# EAGLE library part AD9838 (library tdcs)
The AD9838 is a low power DDS device capable of producing high performance sine and triangular outputs. It also has an on-board comparator that allows a square wave to be produced for clock generation. Consuming only 11 mW of power at 2.3 V the AD9838 is an ideal candidate for power-sensitive applications. Datasheet <http://www.analog.com/static/imported-files/data_sheets/AD9838.pdf>
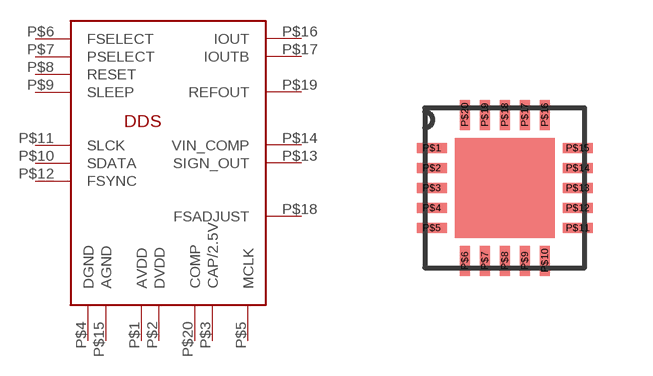
[diagram p0: symbol with the pads of LFCSP_WQ20; footprint LFCSP_WQ20]

Designator prefix DDS

## AD9838  [LFCSP_WQ20]
P$1  AVDD  in
P$2  DVDD  in
P$3  CAP/2.5V  pas
P$4  DGND  in
P$5  MCLK  in
P$6  FSELECT  pas
P$7  PSELECT  pas
P$8  RESET  pas
P$9  SLEEP  pas
P$10  SDATA
P$11  SLCK  in
P$12  FSYNC
P$13  SIGN_OUT  out
P$14  VIN_COMP  in
P$15  AGND  in
P$16  IOUT  pas
P$17  IOUTB  pas
P$18  FSADJUST  pas
P$19  REFOUT  pas
P$20  COMP  pas

## Footprint LFCSP_WQ20 (pad centres in mm)
20-Lead Lead Frame Chip Scale Package[LFCSP] Derived from Analog Devices documents on the LFCSP_WQ <http://www.analog.com/static/imported-files/packages/PKG_PDF/LFCSP(CP)/CP_20_10.pdf> package and design guidelines <http://www.analog.com/static/imported-files/application_notes/AN772_0.pdf> (Analog Note AN772) on landing pad design for LFCSP
smd 0.75 x 0.25: P$1 -1.825,1; P$2 -1.825,0.5; P$3 -1.825,0; P$4 -1.825,-0.5; P$5 -1.825,-1; P$11 1.825,-1; P$12 1.825,-0.5; P$13 1.825,0; P$14 1.825,0.5; P$15 1.825,1
smd 0.25 x 0.75: P$6 -1,-1.825; P$7 -0.5,-1.825; P$8 0,-1.825; P$9 0.5,-1.825; P$10 1,-1.825; P$16 1,1.825; P$17 0.5,1.825; P$18 0,1.825; P$19 -0.5,1.825; P$20 -1,1.825